# Altium schematic symbol library Chassis Mount TRIAC.Schlib: 1 symbol
Pins are listed as number, name and electrical type; pins without a type are passive.

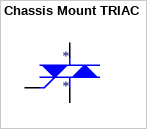
[diagram p0: symbol Chassis Mount TRIAC]

## Chassis Mount TRIAC
designator *
40A 600V Chassis Mount TRIAC
pins: 1 GATE, 2 ANODE1, 3 ANODE2